# EAGLE library part DRV8320RSRHAR_DRV8320RSRHAR (library MotorDriver)
60V Three-Phase Smart Gate Driver With Buck Regulator <https://store.ti.com/Assets/ProductImages/drv8320r.jpg> Source: Datasheet <http://www.ti.com/lit/gpn/drv8320r>
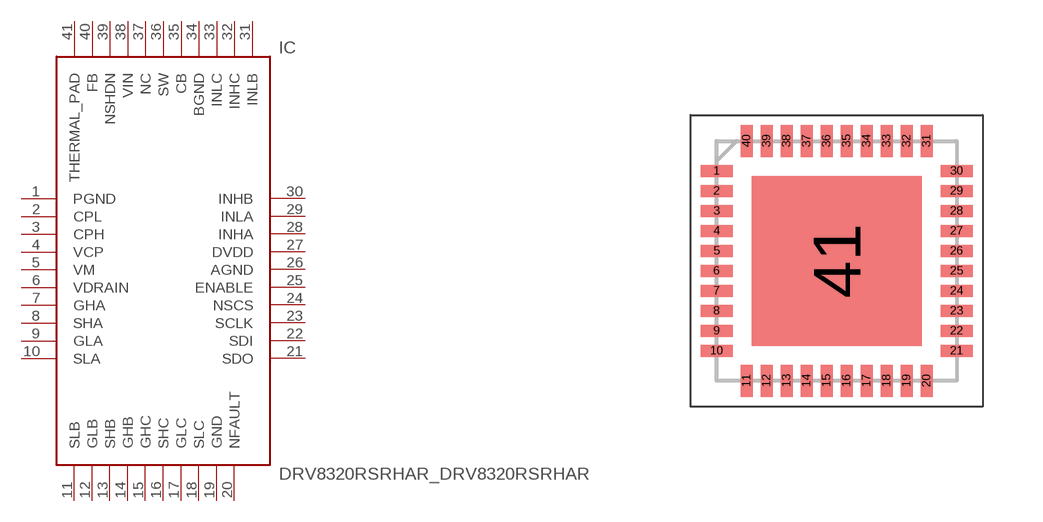
[diagram p0: symbol with the pads of DRV8320RSRHAR_QFN50P600X600X100-41N; footprint DRV8320RSRHAR_QFN50P600X600X100-41N]

Designator prefix IC

## DRV8320RSRHAR_DRV8320RSRHAR (DESCRIPTION: 60V Three-Phase Smart Gate Driver With Buck Regulator; HEIGHT: 1mm; MANUFACTURER_NAME: Texas Instruments; MANUFACTURER_PART_NUMBER: DRV8320RSRHAR; SUPPLIER_NAME: RS)  [DRV8320RSRHAR_QFN50P600X600X100-41N]
1  PGND  pas
2  CPL  pas
3  CPH  pas
4  VCP  pas
5  VM  pas
6  VDRAIN  pas
7  GHA  pas
8  SHA  pas
9  GLA  pas
10  SLA  pas
11  SLB  pas
12  GLB  pas
13  SHB  pas
14  GHB  pas
15  GHC  pas
16  SHC  pas
17  GLC  pas
18  SLC  pas
19  GND  pas
20  NFAULT  pas
21  SDO  pas
22  SDI  pas
23  SCLK  pas
24  NSCS  pas
25  ENABLE  pas
26  AGND  pas
27  DVDD  pas
28  INHA  pas
29  INLA  pas
30  INHB  pas
31  INLB  pas
32  INHC  pas
33  INLC  pas
34  BGND  pas
35  CB  pas
36  SW  pas
37  NC  nc
38  VIN  pas
39  NSHDN  pas
40  FB  pas
41  THERMAL_PAD  pas

## Footprint DRV8320RSRHAR_QFN50P600X600X100-41N (pad centres in mm)
RHA (S-PVQFN-N40)_4
smd 0.8 x 0.3: 1 -3,2.25; 2 -3,1.75; 3 -3,1.25; 4 -3,0.75; 5 -3,0.25; 6 -3,-0.25; 7 -3,-0.75; 8 -3,-1.25; 9 -3,-1.75; 10 -3,-2.25; 21 3,-2.25; 22 3,-1.75; 23 3,-1.25; 24 3,-0.75; 25 3,-0.25; 26 3,0.25; 27 3,0.75; 28 3,1.25; 29 3,1.75; 30 3,2.25
smd 0.3 x 0.8: 11 -2.25,-3; 12 -1.75,-3; 13 -1.25,-3; 14 -0.75,-3; 15 -0.25,-3; 16 0.25,-3; 17 0.75,-3; 18 1.25,-3; 19 1.75,-3; 20 2.25,-3; 31 2.25,3; 32 1.75,3; 33 1.25,3; 34 0.75,3; 35 0.25,3; 36 -0.25,3; 37 -0.75,3; 38 -1.25,3; 39 -1.75,3; 40 -2.25,3
smd 4.25 x 4.25: 41 0,0